# Altium footprint library dynge.PcbLib: 1 footprints
Each footprint in its own frame and in the unit in brackets; x right, y up, seen from the top. Pads: shape width x height; smd on the part's side, far side on the other; paste and mask are expansions set on the pad; w line width, h text height; cw(c..) or ccw(c..) is an arc to the next point about the centre after c.
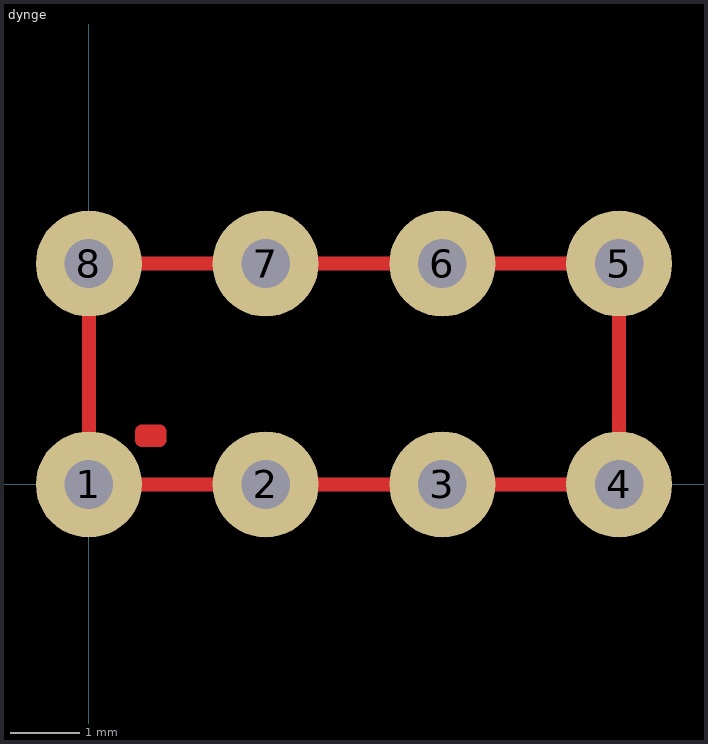
[diagram p0: the footprint, top view; thin cyan lines are the x and y axes]

## dynge [mil]
pads (8):
  round 60 hole 27.56: 1(0,0) 2(100,0) 3(200,0) 4(300,0) 5(300,125) 6(200,125) 7(100,125) 8(0,125)
Top Layer:
  lines w7.87: 0,0 300,0 300,125 0,125 0,0 ; 30,25 40,25 40,30 30,30 30,25